# Altium schematic symbol library Discrete.SchLib: 157 symbols (part 2 of 2)
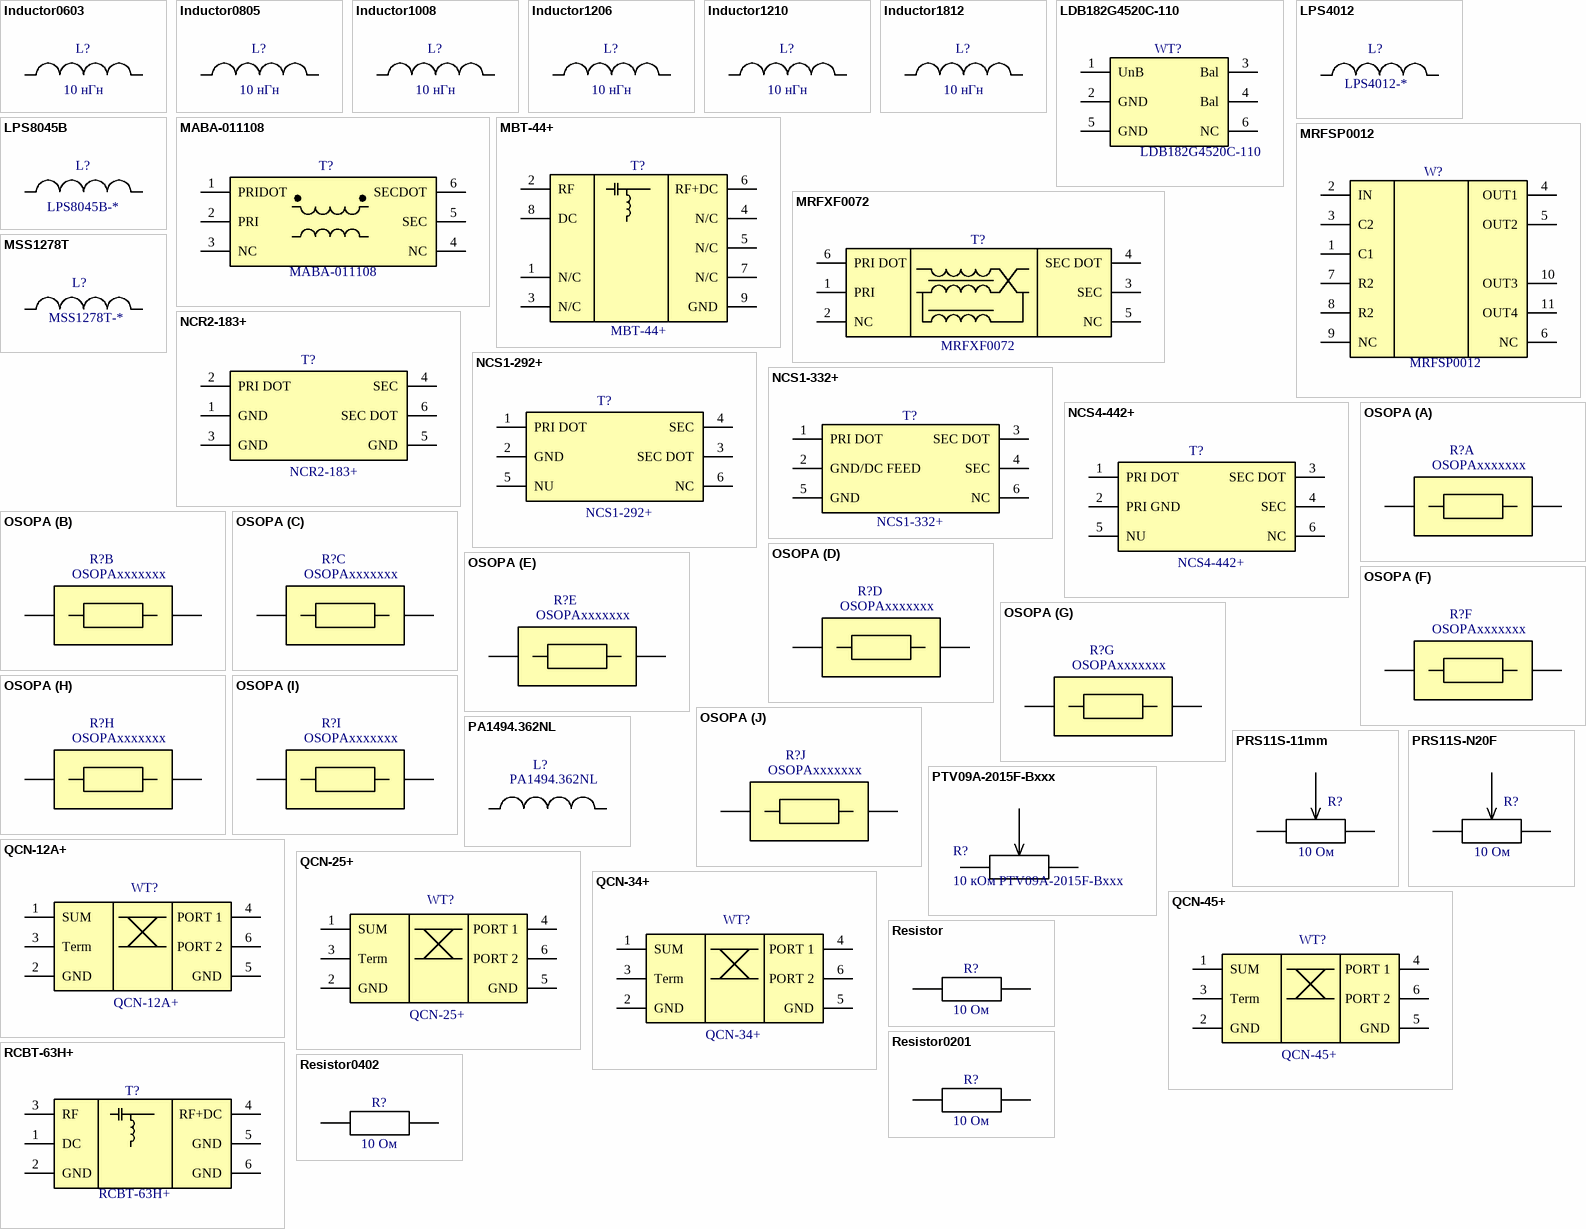
[diagram p5: symbols Inductor0603 to Resistor0402]

## Resistor0402
designator R?, comment 10 Ом
Resistor, chip, 0402; Value: 10 Ом; PartNumber: *; Tolerance: *; Power: *; DCV: *; Manufacturer: *; Package: 0402
footprint RESC100X50X40L25N (Resistor, Chip; 1.00 mm L X 0.50 mm W X 0.40 mm H body)
pins: 1, 2

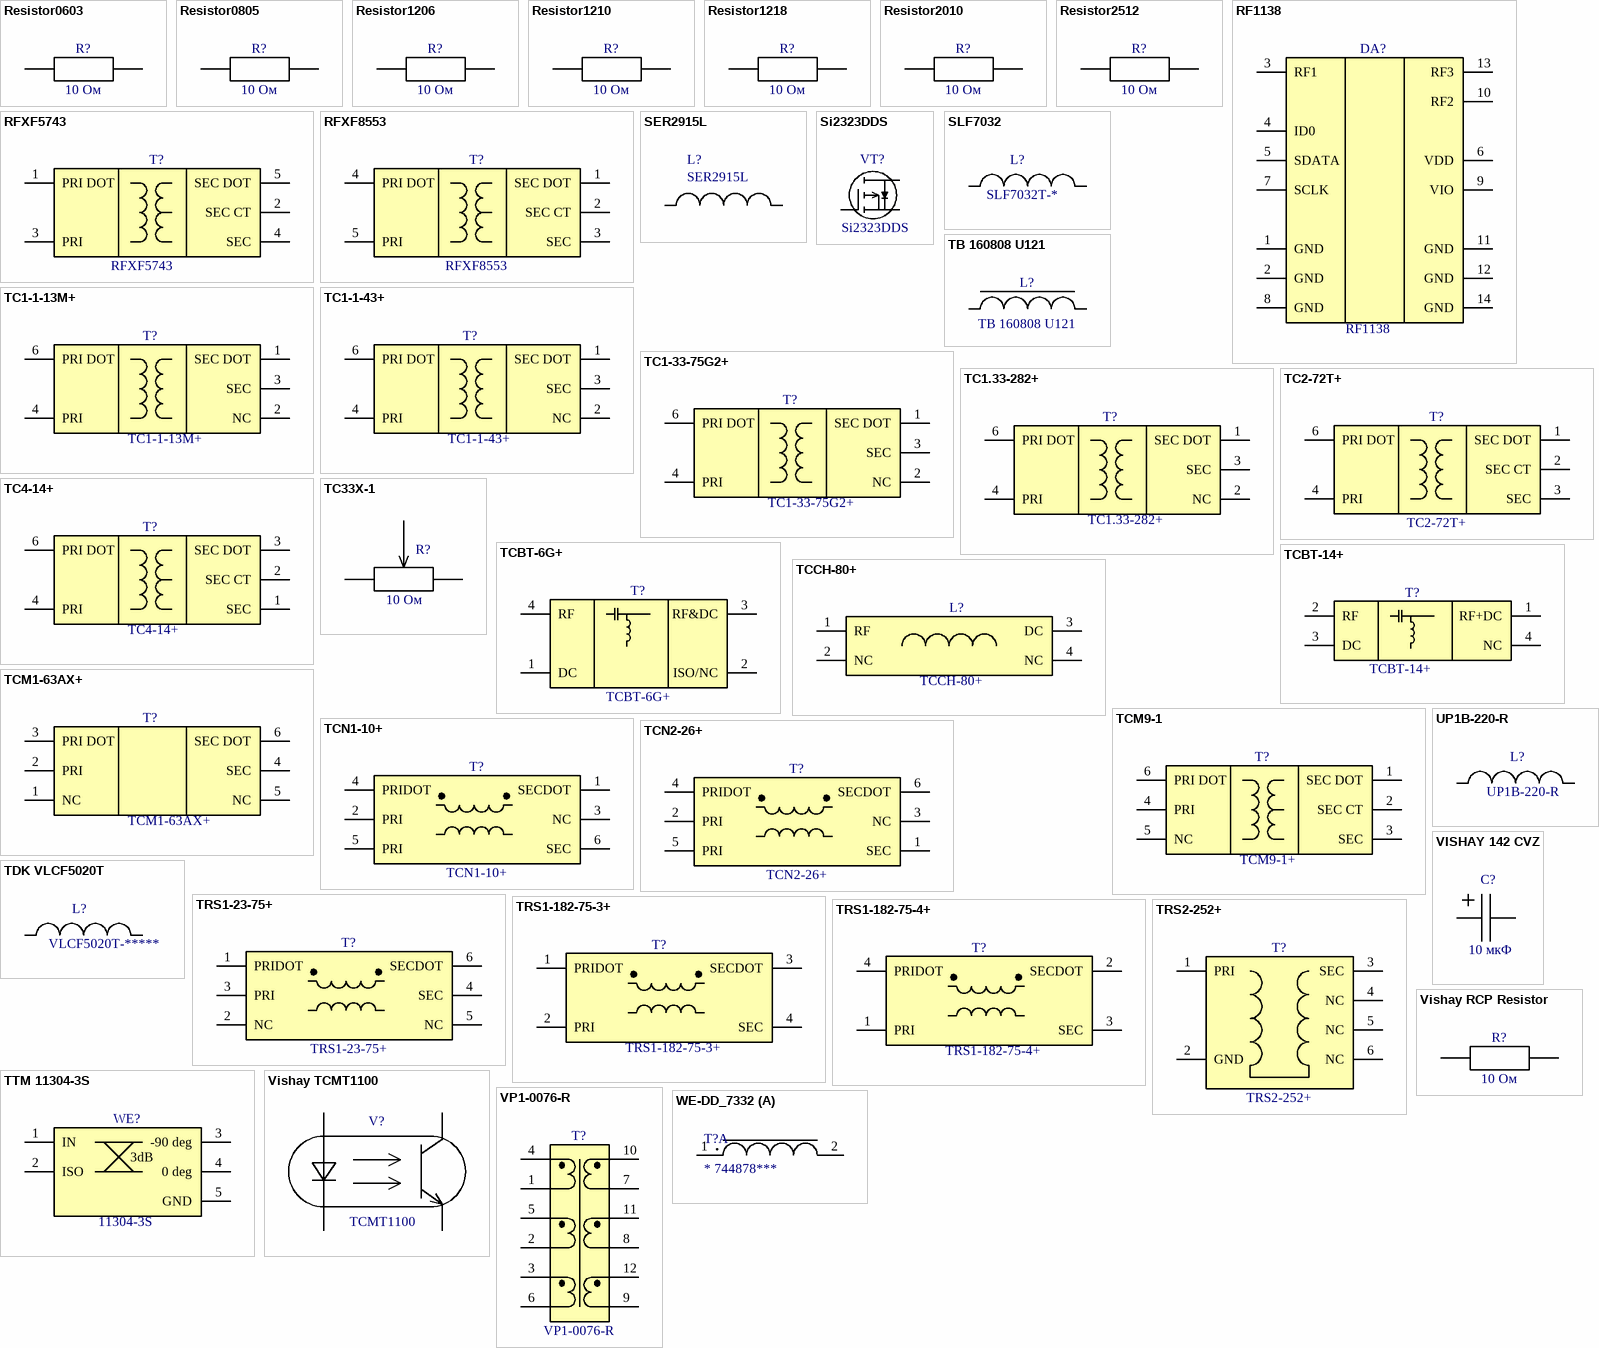
[diagram p3: symbols Resistor0603 to WE-DD_7332]

## Resistor0603
designator R?, comment 10 Ом
Resistor, chip, 0603; Value: 10 Ом; PartNumber: *; Tolerance: *; Power: *; DCV: *; Manufacturer: *; Package: 0603
footprint RESC160X80X60L30N (Resistor, Chip; 1.60 mm L X 0.80 mm W X 0.60 mm H body)
pins: 1, 2

## Resistor0805
designator R?, comment 10 Ом
Resistor, chip, 0805; Value: 10 Ом; PartNumber: *; Tolerance: *; Power: *; DCV: *; Manufacturer: *; Package: 0805
footprint RESC200X125X65L40N (Resistor, Chip; 2.00 mm L X 1.25 mm W X 0.65 mm H body)
pins: 1, 2

## Resistor1206
designator R?, comment 10 Ом
Resistor, chip, 1206; Value: 10 Ом; PartNumber: *; Tolerance: *; Power: *; DCV: *; Manufacturer: *; Package: 1206
footprint RESC310X160X65L40N (Resistor, Chip; 3.10 mm L X 1.60 mm W X 0.65 mm H body)
pins: 1, 2

## Resistor1210
designator R?, comment 10 Ом
Resistor, chip, 1210; Value: 10 Ом; PartNumber: *; Tolerance: *; Power: *; DCV: *; Manufacturer: *; Package: 1210
footprint RESC310X260X65L50N (Resistor, Chip; 3.10 mm L X 2.60 mm W X 0.65 mm H body)
pins: 1, 2

## Resistor1218
designator R?, comment 10 Ом
Resistor, chip, 1218; Value: 10 Ом; PartNumber: *; Tolerance: *; Power: *; DCV: *; Manufacturer: *; Package: 1218
footprint RESC310X460X65L40N (Resistor, Chip; 3.10 mm L X 4.60 mm W X 0.65 mm H body)
pins: 1, 2

## Resistor2010
designator R?, comment 10 Ом
Resistor, chip, 1210; Value: 10 Ом; PartNumber: *; Tolerance: *; Power: *; DCV: *; Manufacturer: *; Package: 1210
footprint RESC500X250X65L50N (Resistor, Chip; 5.00 mm L X 2.50 mm W X 0.65 mm H body)
pins: 1, 2

## Resistor2512
designator R?, comment 10 Ом
Resistor, chip, 2512; Value: 10 Ом; PartNumber: *; Tolerance: *; Power: *; DCV: *; Manufacturer: *; Package: 2512
footprint RESC635X310X65L50N (Resistor, Chip; 6.35 mm L X 3.10 mm W X 0.65 mm H body)
pins: 1, 2

## RF1138
designator DA?
5 bit Tunable Capacitor with Switch; Manufacturer: Qorvo; PartNumber: RF1138
footprint BGA14CP40_4X5_158X198X60B26N (Ball Grid Array (BGA), 0.40 mm pitch, rect.; 14 pin, 1.58 mm L X 1.98 mm W X 0.602 mm H body)
pins: 1 GND, 2 GND, 3 RF1, 4 ID0, 5 SDATA, 6 VDD, 7 SCLK, 8 GND, 9 VIO, 10 RF2, 11 GND, 12 GND, 13 RF3, 14 GND

## RFXF5743
designator T?
1:3 SMT TRANSFORMER 75 Ohm; Manufacturer: MiniRF; PartNumber: RFXF5743; ComponentLink1Description: ProductPage; ComponentLink1URL: https://www.rfmw.com/products/detail/rfxf5743-minirf/34935/; ComponentLink2Description: DataSheet; ComponentLink2URL: http://www.minirf.com/pdf/transformers/RFXF5743DS.pdf
footprint RFXF5743 (Mini RF RFXF5743 Case S20)
pins: 1 PRI DOT, 2 SEC CT, 3 PRI, 4 SEC, 5 SEC DOT

## RFXF8553
designator T?
1:4 SMT TRANSFORMER 500 MHz to 2500MHz; Manufacturer: MiniRF; PartNumber: RFXF8553; ComponentLink1Description: ProductPage; ComponentLink1URL: https://www.rfmw.com/products/detail/rfxf8553-minirf/34885/; ComponentLink2Description: DataSheet; ComponentLink2URL: http://www.minirf.com/pdf/transformers/RFXF8553DS.pdf
footprint RFXF5743 (Mini RF RFXF5743 Case S20)
pins: 1 SEC DOT, 2 SEC CT, 3 SEC, 4 PRI DOT, 5 PRI

## SER2915L
designator L?
Shielded Power Inductor; Manufacturer: Coilcraft; Tolerance: ±10%; PartNumber: SER2915L; Value: *; DCR: *; ComponentLink1Description: Product Page; ComponentLink1URL: https://www.coilcraft.com/en-us/products/power/shielded-inductors/high-current-flat-wire/ser/ser29xx/; SRF: *; ISAT: *; IRMS: *
footprint CoilCraft_SER2915L (CoilCraft Power Inductor)
pins: 1, 2

## Si2323DDS
designator VT?
P-Channel 20-V (D-S) MOSFET; Manufacturer: Vishay; PartNumber: Si2323DDS; ComponentLink1Description: Product Page; ComponentLink1URL: https://www.vishay.com/en/product/64004/; ComponentLink2Description: DataSheet; ComponentLink2URL: https://www.vishay.com/docs/64004/si2323dds.pdf
footprint SOT23-3P95_237X112L50X42N (Small Outline Transistor (SOT23), 0.95 mm pitch; 3 pin, 2.92 mm L X 1.30 mm W X 1.12 mm H body)
pins: 1 G, 2 S, 3 D

## SLF7032
designator L?, comment SLF7032T-*
Inductors for power circuits Wound ferrite SLF series; Manufacturer: TDK; Tolerance: ±20%; PartNumber: SLF7032T-*; Value: *; DCR: *; ISAT: *; ComponentLink1Description: DataSheet; ComponentLink1URL: https://product.tdk.com/info/en/catalog/datasheets/inductor_commercial_power_slf7032_en.pdf
footprint SLF7032 (TDK SLF7032 type)
pins: 1, 2

## TB 160808 U121
designator L?
Multilayer Ferrite Chip Bead; Manufacturer: Frontier; Value: 100 мОм/800 мА; PartNumber: TB 160808 U121; DCR: *; ISAT: *
footprint BEADC160X80X100L30N (Ferrite Bead, Chip; 1.60 mm L X 0.80 mm W X 1.00 mm H body)
pins: 1, 2

## TC1-1-13M+
designator T?
RF Transformer 50Ω 4.5 to 3000 MHz; Manufacturer: Mini-Circuits; PartNumber: TC1-1-13M+; ComponentLink1Description: Product Page; ComponentLink1URL: https://www.minicircuits.com/WebStore/dashboard.html?model=TC1-1-13M%2B; ComponentLink2Description: DataSheet; ComponentLink2URL: https://www.minicircuits.com/WebStore/dashboardPdf?model=TC1-1-13M%2B
footprint AT224-1A (Mini-Circuirts case AT224-1A)
pins: 1 SEC DOT, 2 NC, 3 SEC, 4 PRI, 6 PRI DOT

## TC1-1-43+
designator T?
1:1 CORE & WIRE Transformer, 650 - 4000 MHz, 50Ω; Manufacturer: Mini-Circuits; PartNumber: TC1-1-43+; ComponentLink1Description: Product Page; ComponentLink1URL: https://www.minicircuits.com/WebStore/dashboard.html?model=TC1-1-43%2B; ComponentLink2Description: DataSheet; ComponentLink2URL: https://www.minicircuits.com/WebStore/dashboardPdf?model=TC1-1-43%2B
footprint AT224-1A (Mini-Circuirts case AT224-1A)
pins: 1 SEC DOT, 2 NC, 3 SEC, 4 PRI, 6 PRI DOT

## TC1-33-75G2+
designator T?
1:1 CORE & WIRE Transformer, 5 - 3000 MHz, 75Ω; Manufacturer: Mini-Circuits; PartNumber: TC1-33-75G2+; ComponentLink1Description: Product Page; ComponentLink1URL: https://www.minicircuits.com/WebStore/dashboard.html?model=TC1-33-75G2%2B; ComponentLink2Description: DataSheet; ComponentLink2URL: https://www.minicircuits.com/WebStore/dashboardPdf?model=TC1-33-75G2%2B
footprint AT224-3 (Mini-Circuits)
pins: 1 SEC DOT, 2 NC, 3 SEC, 4 PRI, 6 PRI DOT

## TC1.33-282+
designator T?
1:1.33 CORE & WIRE Transformer, 5 - 2800 MHz, 75Ω; Manufacturer: Mini-Circuits; PartNumber: TC1.33-282+; ComponentLink1Description: Product Page; ComponentLink1URL: https://www.minicircuits.com/WebStore/dashboard.html?model=TC1.33-282%2B; ComponentLink2Description: DataSheet; ComponentLink2URL: https://www.minicircuits.com/WebStore/dashboardPdf?model=TC1.33-282%2B
footprint AT224-1A (Mini-Circuirts case AT224-1A)
pins: 1 SEC DOT, 2 NC, 3 SEC, 4 PRI, 6 PRI DOT

## TC2-72T+
designator T?
1:2 CORE & WIRE Transformer, 10 - 700 MHz, 50Ω; Manufacturer: Mini-Circuits; PartNumber: TC2-72T+; ComponentLink1Description: Product Page; ComponentLink1URL: https://www.minicircuits.com/WebStore/dashboard.html?model=TC2-72T%2B; ComponentLink2Description: DataSheet; ComponentLink2URL: https://www.minicircuits.com/WebStore/dashboardPdf?model=TC2-72T%2B
footprint AT1521 (Mini-Circuirts case AT1521)
pins: 1 SEC DOT, 2 SEC CT, 3 SEC, 4 PRI, 6 PRI DOT

## TC4-14+
designator T?
RF Transformer 50Ω 200 to 1400 MHz; Manufacturer: Mini-Circuits; PartNumber: TC4-14+; ComponentLink1Description: Product Page; ComponentLink1URL: https://www.minicircuits.com/WebStore/dashboard.html?model=TC4-14%2B; ComponentLink2Description: DataSheet; ComponentLink2URL: https://www.minicircuits.com/WebStore/dashboardPdf?model=TC4-14%2B
footprint AT224-1 (Mini-Circuirts case AT224-1)
pins: 1 SEC, 2 SEC CT, 3 SEC DOT, 4 PRI, 6 PRI DOT

## TC33X-1
designator R?, comment 10 Ом
TC33 - 3 mm SMD Trimpot® Trimming Potentiometer; PartNumber: TC33X-1; Manufacturer: Bourns; Power: 0,15 Вт; Tolerance: ±25%; DCV: 50 В; Value: 10 Ом; ComponentLink1Description: DataSheet; ComponentLink1URL: https://www.bourns.com/docs/Product-Datasheets/TC33.pdf
footprint bourns_TC33X-1 (Trimmer Potenciometer, Bourns,  3.6 mm X 3.8 mm X 1.2 mm)
pins: 1, 2, 3

## TCBT-6G+
designator T?
BIAS TEE / SURF MT / RoHS; Manufacturer: Mini-Circuits; PartNumber: TCBT-6G+; ComponentLink1Description: Product Page; ComponentLink1URL: https://www.minicircuits.com/WebStore/dashboard.html?model=TCBT-6G%2B; ComponentLink2Description: DataSheet; ComponentLink2URL: https://www.minicircuits.com/WebStore/dashboardPdf?model=TCBT-6G%2B
footprint GU1604 (Mini-Circuits case GU1604)
pins: 1 DC, 2 ISO/NC, 3 RF&DC, 4 RF

## TCBT-14+
designator T?
BIAS TEE / SURF MT / RoHS/ 50Ω Wideband 10 MHz to 10 GHz; Manufacturer: Mini-Circuits; PartNumber: TCBT-14+; ComponentLink1Description: Product Page; ComponentLink1URL: https://www.minicircuits.com/WebStore/dashboard.html?model=TCBT-14%2B; ComponentLink2Description: DataSheet; ComponentLink2URL: https://www.minicircuits.com/WebStore/dashboardPdf?model=TCBT-14%2B
footprint GU1414 (Mini-Circuits case GU1414)
pins: 1 RF+DC, 2 RF, 3 DC, 4 NC

## TCCH-80+
designator L?
RF Choke 50Ω 50 to 8200 MHz; Manufacturer: Mini-Circuits; PartNumber: TCCH-80+; ComponentLink1Description: Product Page; ComponentLink1URL: https://www.minicircuits.com/WebStore/dashboard.html?model=TCCH-80%2B; ComponentLink2Description: DataSheet; ComponentLink2URL: https://www.minicircuits.com/WebStore/dashboardPdf?model=TCCH-80%2B
footprint GU1604 (Mini-Circuits case GU1604)
pins: 1 RF, 2 NC, 3 DC, 4 NC

## TCM1-63AX+
designator T?
RF Transformer 10 to 6000 MHz; Manufacturer: Mini-Circuits; PartNumber: TCM1-63AX+; ComponentLink1Description: Product Page; ComponentLink1URL: https://www.minicircuits.com/WebStore/dashboard.html?model=TCM1-63AX%2B; ComponentLink2Description: DataSheet; ComponentLink2URL: https://www.minicircuits.com/WebStore/dashboardPdf?model=TCM1-63AX%2B
footprint DB1627 (Mini-Circuirts case DB1627)
pins: 1 NC, 2 PRI, 3 PRI DOT, 4 SEC, 5 NC, 6 SEC DOT

## TCM9-1
designator T?, comment TCM9-1+
RF Transformer 50Ω 2 to 280 MHz; Manufacturer: Mini-Circuits; PartNumber: TCM9-1+; ComponentLink1Description: Product Page; ComponentLink1URL: https://www.minicircuits.com/WebStore/dashboard.html?model=TCM9-1%2B; ComponentLink2Description: DataSheet; ComponentLink2URL: https://www.minicircuits.com/WebStore/dashboardPdf?model=TCM9-1%2B
footprint DB714 (Mini-Circuirts case DB714)
pins: 1 SEC DOT, 2 SEC CT, 3 SEC, 4 PRI, 5 NC, 6 PRI DOT

## TCN1-10+
designator T?
1:1 LTCC Transformer, 680 - 1050 MHz, 50Ω; Manufacturer: Mini-Circuits; PartNumber: TCN1-10+; ComponentLink1Description: ProductPage; ComponentLink1URL: https://www.minicircuits.com/WebStore/dashboard.html?model=TCN1-10%2B; ComponentLink2Description: DataSheet; ComponentLink2URL: https://www.minicircuits.com/WebStore/dashboardPdf?model=TCN1-10%2B
footprint FV1206-1 (Mini-Circuits case FV1206-1)
pins: 1 SECDOT, 2 PRI, 3 NC, 4 PRIDOT, 5 PRI, 6 SEC

## TCN2-26+
designator T?
1:2 LTCC Transformer, 1600 - 2600 MHz, 50Ω; Manufacturer: Mini-Circuits; PartNumber: TCN2-26+; ComponentLink1Description: ProductPage; ComponentLink1URL: https://www.minicircuits.com/WebStore/dashboard.html?model=TCN2-26%2B; ComponentLink2Description: DataSheet; ComponentLink2URL: https://www.minicircuits.com/WebStore/dashboardPdf?model=TCN2-26%2B
footprint FV1206-1 (Mini-Circuits case FV1206-1)
pins: 1 SEC, 2 PRI, 3 NC, 4 PRIDOT, 5 PRI, 6 SECDOT

## TDK VLCF5020T
designator L?, comment VLCF5020T-*****
TDK Inductors for power circuits, Wound ferrite, VLCF series; PartNumber: VLCF5020T-*****; Value: *; DCR: *; ISAT: *; ComponentLink1Description: Product Page; ComponentLink1URL: https://product.tdk.com/en/search/inductor/inductor/smd/catalog; Manufacturer: TDK; Tolerance: *; IRMS: *
footprint TDK VLCF5020T (TDK 5x5x2 WOUND FERRITE)
pins: 1, 2

## TRS1-23-75+
designator T?
1:1 CORE & WIRE Transformer, 10 - 2200 MHz, 75Ω; Manufacturer: Mini-Circuits; PartNumber: TRS1-23-75+; ComponentLink1Description: ProductPage; ComponentLink1URL: https://www.minicircuits.com/WebStore/dashboard.html?model=TRS1-23-75%2B; ComponentLink2Description: DataSheet; ComponentLink2URL: https://www.minicircuits.com/WebStore/dashboardPdf?model=TRS1-23-75%2B
footprint AT577-1 (Mini-Circuirts case AT577-1)
pins: 1 PRIDOT, 2 NC, 3 PRI, 4 SEC, 5 NC, 6 SECDOT

## TRS1-182-75-3+
designator T?
1:1 CORE & WIRE Transformer, 10 - 1800 MHz, 75Ω; Manufacturer: Mini-Circuits; PartNumber: TRS1-182-75-3+; ComponentLink1Description: ProductPage; ComponentLink1URL: https://www.minicircuits.com/WebStore/dashboard.html?model=TRS1-182-75-3%2B; ComponentLink2Description: DataSheet; ComponentLink2URL: https://www.minicircuits.com/WebStore/dashboardPdf?model=TRS1-182-75-3%2B
footprint TT1618-2 (Mini-Circuits CASE TT1618-2)
pins: 1 PRIDOT, 2 PRI, 3 SECDOT, 4 SEC

## TRS1-182-75-4+
designator T?
1:1 CORE & WIRE Transformer, 10 - 1800 MHz, 75Ω; Manufacturer: Mini-Circuits; PartNumber: TRS1-182-75-4+; ComponentLink1Description: ProductPage; ComponentLink1URL: https://www.minicircuits.com/WebStore/dashboard.html?model=TRS1-182-75-4%2B; ComponentLink2Description: DataSheet; ComponentLink2URL: https://www.minicircuits.com/WebStore/dashboardPdf?model=TRS1-182-75-4%2B
footprint TT1618-1 (Mini-Circuits case TT1618-1)
pins: 1 PRI, 2 SECDOT, 3 SEC, 4 PRIDOT

## TRS2-252+
designator T?
RF Transformer 100 to 50Ω 4 to 2500 MHz; Manufacturer: Mini-Circuits; PartNumber: TRS2-252+; ComponentLink1Description: ProductPage; ComponentLink1URL: https://www.minicircuits.com/WebStore/dashboard.html?model=TRS2-252%2B; ComponentLink2Description: DataSheet; ComponentLink2URL: https://www.minicircuits.com/WebStore/dashboardPdf?model=TRS2-252%2B
footprint AT577 (Open style, ceramic base)
pins: 1 PRI, 2 GND, 3 SEC, 4 NC, 5 NC, 6 NC

## TTM 11304-3S
designator WE?, comment 11304-3S
Hybrid Coupler 3 dB, 90°, 0.5-1 GHz; Manufacturer: TTM; PartNumber: 11304-3S; ComponentLink1Description: Product Page; ComponentLink1URL: https://www.ttm.com/en/solutions/rfs-components/xinger-components/90-degree-hybrid-couplers; ComponentLink2Description: DataSheet; ComponentLink2URL: https://cdn.ttm.com/repository/products/wireless-xinger/3db-hybrid-couplers/11304-3S/11304-3S.pdf
footprint TTM 11304-3S (TTM Xinger 0.65 x 0.48)
pins: 1 IN, 2 ISO, 3 -90 deg, 4 0 deg, 5 GND
text: 3dB

## UP1B-220-R
designator L?
Power Inductors; Manufacturer: Eaton; Value: 22 мкГн; IRMS: 1 А; ISAT: 1,2 А; DCR: 250 мОм; PartNumber: UP1B-220-R; ComponentLink1Description: Product Page; ComponentLink1URL: https://www.eaton.com/us/en-us/catalog/electronic-components/up-inductor.html
footprint UP1B (UP1B CASE Coiltronics)
pins: 1, 2

## VISHAY 142 CVZ
designator C?, comment 10 мкФ
Aluminum Electrolytic Capacitors SMD (Chip), High Temperature, Low Impedance; PartNumber: MAL2142*******; Manufacturer: Vishay; Tolerance: ±20%; Value: 10 мкФ; VDC: *; Package: *; ESR: *
footprint VISHAY 142 CVZ 0406 (VISHAY CAPAE 142 CVZ 4x4x5.7)
footprint VISHAY 142 CVZ 0506 (VISHAY CAPAE 142 CVZ 4x5x5.7)
footprint VISHAY 142 CVZ 0606 (VISHAY CAPAE 142 CVZ 6.3x6.3x5.7)
footprint VISHAY 142 CVZ 0608 (VISHAY CAPAE 142 CVZ 6.3x6.3x7.7)
footprint VISHAY 142 CVZ 0807 (VISHAY CAPAE 142 CVZ 8x8x6.5)
footprint VISHAY 142 CVZ 0810 (VISHAY CAPAE 142 CVZ 8x8x10)
footprint VISHAY 142 CVZ 1010 (VISHAY CAPAE 142 CVZ 10x10x10)
footprint VISHAY 142 CVZ 1213 (VISHAY CAPAE 142 CVZ 12.5x12.5x12.5)
pins: 1, 2

## Vishay RCP Resistor
designator R?, comment 10 Ом
Thick Film Chip Resistors, Industrial, High Power, Aluminum Nitride Substrate, RCP Series, Vishay; PartNumber: RCP0505*; Value: 10 Ом; Tolerance: *; Power: *; Manufacturer: Vishay; Package: 0505
footprint Vishay RCP0505B (Resistor, Chip; 1.40 mm L X 1.27 mm W X 0.64 mm H body)
footprint Vishay RCP0505W (Resistor, Chip; 1.40 mm L X 1.27 mm W X 0.64 mm H body)
pins: 1, 2

## Vishay TCMT1100
designator V?, comment TCMT1100
Optocoupler, Phototransistor Output, Single  Channel, Half Pitch Mini-Flat Package; Manufacturer: Vishay; PartNumber: TCMT1100; ComponentLink1Description: Product Page; ComponentLink1URL: https://www.vishay.com/en/product/83510/; ComponentLink2Description: DataSheet; ComponentLink2URL: https://www.vishay.com/docs/83510/tcmt11.pdf
footprint SOIC4P127_260X700X220L55X40N (Small Outline IC (SOIC), 1.27 mm pitch; 4 pin, 2.60 mm L X 4.40 mm W X 2.20 mm H body)
pins: 1 VD_A, 2 VD_C, 3 VT_E "emitter", 4 VT_C "collector"

## VP1-0076-R
designator T?
1:1 x6 Transformer. Power ranges from 1 W to 70 W while frequency ranges to over 1 MHz.; Manufacturer: Eaton; PartNumber: VP1-0076-R; ComponentLink1Description: ProductPage; ComponentLink1URL: https://www.eaton.com/us/en-us/catalog/electronic-components/vp-transformer.html
footprint EATON VP-1 (EATON VP-1 Transformer)
pins: 1, 2, 3, 4, 5, 6, 7, 8, 9, 10, 11, 12

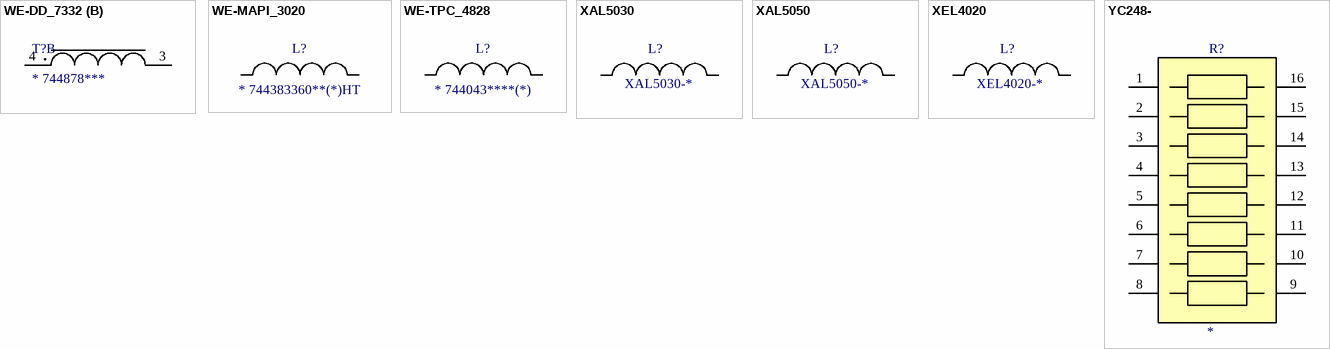
[diagram p4: symbols WE-DD_7332 to YC248-]

## WE-DD_7332
designator T?, comment * 744878***
WE-DD SMT Shielded Coupled Inductor, 1:1; Manufacturer: Wurth Elektronik; Config: Straight; Value: *; Tolerance: *; DCR: *; SRF: *; ISAT: *; IRMS: *; ComponentLink1Description: Product Page; ComponentLink1URL: https://www.we-online.com/en/components/products/WE-DD; PartNumber: 744878***
footprint WE-DD_7332 (SMT Shielded Coupled Inductor, 4-Leads, body 7.3x7.3mm)
part A pins: 1, 2
part B pins: 3, 4

## WE-MAPI_3020
designator L?, comment * 744383360**(*)HT
SMT Shielded Power Inductor, body 3.00 x 3.00 mm; Manufacturer: Wurth Elektronik; Value: *; PartNumber: 744383360**(*)HT; Tolerance: *; DCR: *; IRMS: *; ISAT: *; SRF: *; ComponentLink1Description: Product Page; ComponentLink1URL: https://www.we-online.com/en/components/products/WE-MAPI#/articles/WE-MAPI-SIZE-3020-HT
footprint WE-MAPI_3020 (SMT Shielded Power Inductor, body 3.00 x 3.00 mm)
pins: 1, 2

## WE-TPC_4828
designator L?, comment * 744043****(*)
SMT Tiny Power Inductor, body 4.8x4.8x2.8mm; Manufacturer: Wurth Elektronik; Value: *; PartNumber: 744043****(*); Tolerance: *; DCR: *; IRMS: *; ISAT: *; SRF: *
footprint WE-TPC_4828 (SMT Tiny Power Inductor, body 4.8x4.8x2.8mm)
pins: 1, 2

## XAL5030
designator L?, comment XAL5030-*
Colicraft Shielded Power Inductors; Manufacturer: Coilcraft; Tolerance: ±20%; PartNumber: XAL5030-*; Value: *; DCR: *; SRF: *; ISAT: *; ComponentLink1Description: Product Page; ComponentLink1URL: https://www.coilcraft.com/en-us/products/power/shielded-inductors/molded-inductor/xal/xal50xx/; IRMS: *
footprint XAL5030 (Coilcraft XAL5030- series)
pins: 1, 2

## XAL5050
designator L?, comment XAL5050-*
Colicraft Shielded Power Inductors; Manufacturer: Coilcraft; Tolerance: ±20%; PartNumber: XAL5050-*; Value: *; DCR: *; SRF: *; ISAT: *; ComponentLink1Description: Product Page; ComponentLink1URL: https://www.coilcraft.com/en-us/products/power/shielded-inductors/molded-inductor/xal/xal50xx/; IRMS: *
footprint XAL5050 (Coilcraft XAL5050- series)
pins: 1, 2

## XEL4020
designator L?, comment XEL4020-*
Colicraft Shielded Power Inductors; Manufacturer: Coilcraft; Tolerance: ±20%; PartNumber: XEL4020-*; Value: *; DCR: *; SRF: *; ISAT: *; ComponentLink1Description: Product Page; ComponentLink1URL: https://www.coilcraft.com/en-us/products/power/shielded-inductors/molded-inductor/xel/xel4020/xel4020-122/; IRMS: *
footprint XEL4020 (Coilcraft XEL4020- series)
pins: 1, 2

## YC248-
designator R?
Array Chip Resistor 16Pin/8R 5%, 1%, 0616; PartNumber: YC248-**-******; Manufacturer: Yageo; DCV: 50 В; Power: 1/16 Вт; Value: *; Tolerance: ±*; Package: 0616; ComponentLink1Description: Product Page; ComponentLink1URL: https://www.yageo.com/en/Product/Index/rchip/array_network/yc; ComponentLink2Description: DataSheet; ComponentLink2URL: https://www.yageo.com/upload/media/product/products/datasheet/rchip/PYu-YC_TC_group_51_RoHS_L_9.pdf
footprint RESCAXE16P50_400X160X55L40X45N (Resistor, Chip Array, 2 Side Convex, 0.50 mm pitch; 16 pin, 4.00 mm L X 1.60 mm W X 0.55 mm H body)
pins: 1, 2, 3, 4, 5, 6, 7, 8, 9, 10, 11, 12, 13, 14, 15, 16